# Altium footprint library PowerPak ChipFet Dual.PcbLib: 1 footprints
Each footprint in its own frame and in the unit in brackets; x right, y up, seen from the top. Pads: shape width x height; smd on the part's side, far side on the other; paste and mask are expansions set on the pad; w line width, h text height; cw(c..) or ccw(c..) is an arc to the next point about the centre after c.
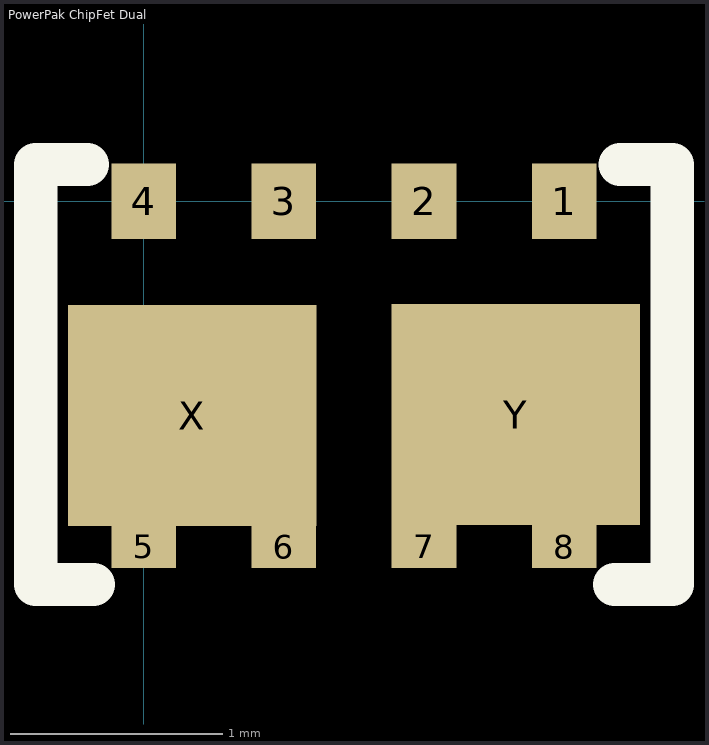
[diagram p0: the footprint, top view; thin cyan lines are the x and y axes]

## PowerPak ChipFet Dual [mil]
pads (10):
  rect 12x14 smd: 1(78,0) 2(52,0) 3(26,0) 4(0,0)
  rect 12x8 smd: 5(0,-64) 6(26,-64) 7(52,-64) 8(78,-64)
  rect 46x41 smd: X(9.01,-39.74) Y(69,-39.55)
TopOverlay:
  lines w8: -10.46,6.84 -19.99,6.84 -19.99,-71.02 -9.31,-71.02 ; 87.36,-71.02 98.01,-71.02 98.01,6.84 88.38,6.84
3D body: height 33, standoff 0, extent -23.99,-75.02 102.01,10.84